# EAGLE library part 53261-0871 (library mbed-HDK-Connector)
8 Position Header 1.25mm Pico Blade
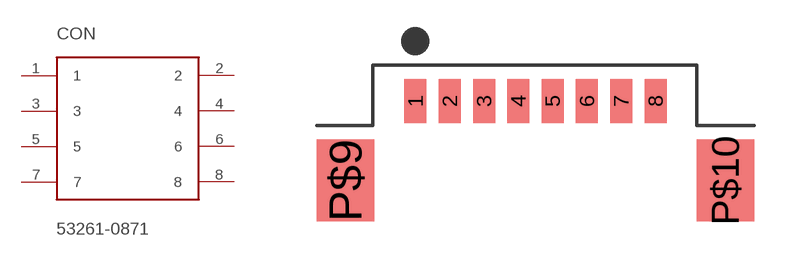
[diagram p8: symbol with the pads of 53261-0871; footprint 53261-0871]

Designator prefix CON

## 53261-0871 (MF: Molex; MFN: 53261-0871; OC-DIGIKEY: WM7626DKR-ND; OC-MOUSER: 538-53261-0871; OC-NEWARK: 93K4248)  [53261-0871]
1  1
2  2
3  3
4  4
5  5
6  6
7  7
8  8

## Footprint 53261-0871 (pad centres in mm)
smd 0.8 x 1.6: 1 2.55,2.9; 2 3.8,2.9; 3 5.05,2.9; 4 6.3,2.9; 5 7.55,2.9; 6 8.8,2.9; 7 10.05,2.9; 8 11.3,2.9
smd 2.1 x 3: P$9 0,0; P$10 13.85,0